# EAGLE library part CC430F5137 (library custom)
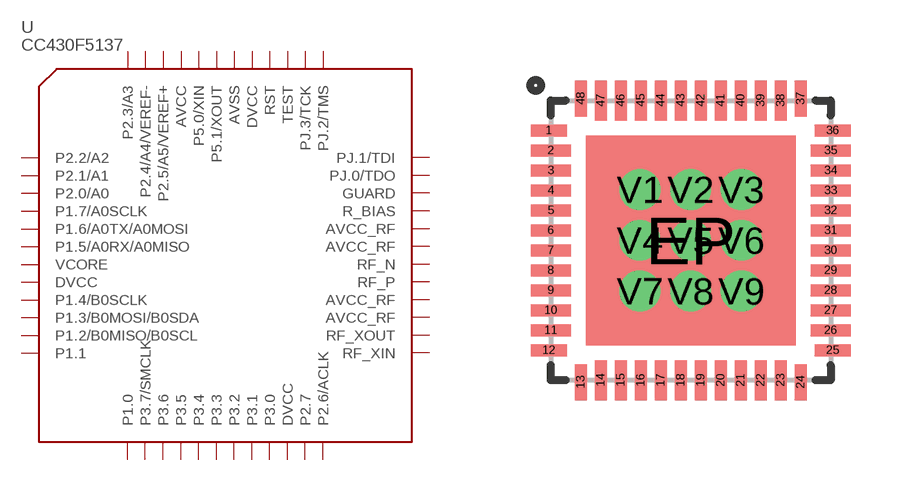
[diagram p63: symbol with the pads of 48-QFN; footprint 48-QFN]

Designator prefix -

## CC430F5137  [48-QFN]
1  P2.2/A2
2  P2.1/A1
3  P2.0/A0
4  P1.7/A0SCLK
5  P1.6/A0TX/A0MOSI
6  P1.5/A0RX/A0MISO
7  VCORE
8  DVCC
9  P1.4/B0SCLK
10  P1.3/B0MOSI/B0SDA
11  P1.2/B0MISO/B0SCL
12  P1.1
13  P1.0
14  P3.7/SMCLK
15  P3.6
16  P3.5
17  P3.4
18  P3.3
19  P3.2
20  P3.1
21  P3.0
22  DVCC
23  P2.7
24  P2.6/ACLK
25  RF_XIN
26  RF_XOUT
27  AVCC_RF
28  AVCC_RF
29  RF_P
30  RF_N
31  AVCC_RF
32  AVCC_RF
33  R_BIAS
34  GUARD
35  PJ.0/TDO
36  PJ.1/TDI
37  PJ.2/TMS
38  PJ.3/TCK
39  TEST
40  RST
41  DVCC
42  AVSS
43  P5.1/XOUT
44  P5.0/XIN
45  AVCC
46  P2.5/A5/VEREF+
47  P2.4/A4/VEREF-
48  P2.3/A3
EP  AVSS
V1  AVSS
V2  AVSS
V3  AVSS
V4  AVSS
V5  AVSS
V6  AVSS
V7  AVSS
V8  AVSS
V9  AVSS

## Footprint 48-QFN (pad centres in mm)
smd 0.9 x 0.3: 1 -3.55,2.75; 12 -3.55,-2.75; 25 3.55,-2.75; 36 3.55,2.75
smd 1 x 0.3: 2 -3.5,2.25; 3 -3.5,1.75; 4 -3.5,1.25; 5 -3.5,0.75; 6 -3.5,0.25; 7 -3.5,-0.25; 8 -3.5,-0.75; 9 -3.5,-1.25; 10 -3.5,-1.75; 11 -3.5,-2.25; 26 3.5,-2.25; 27 3.5,-1.75; 28 3.5,-1.25; 29 3.5,-0.75; 30 3.5,-0.25; 31 3.5,0.25; 32 3.5,0.75; 33 3.5,1.25; 34 3.5,1.75; 35 3.5,2.25
smd 0.3 x 0.9: 13 -2.75,-3.55; 24 2.75,-3.55; 37 2.75,3.55; 48 -2.75,3.55
smd 0.3 x 1: 14 -2.25,-3.5; 15 -1.75,-3.5; 16 -1.25,-3.5; 17 -0.75,-3.5; 18 -0.25,-3.5; 19 0.25,-3.5; 20 0.75,-3.5; 21 1.25,-3.5; 22 1.75,-3.5; 23 2.25,-3.5; 38 2.25,3.5; 39 1.75,3.5; 40 1.25,3.5; 41 0.75,3.5; 42 0.25,3.5; 43 -0.25,3.5; 44 -0.75,3.5; 45 -1.25,3.5; 46 -1.75,3.5; 47 -2.25,3.5
smd 5.25 x 5.25: EP 0,0
drill 0.508: V1 -1.27,1.27; V2 0,1.27; V3 1.27,1.27; V4 -1.27,0; V5 0,0; V6 1.27,0; V7 -1.27,-1.27; V8 0,-1.27; V9 1.27,-1.27